# Altium footprint library F_1812_4532.PcbLib: 1 footprints
Each footprint in its own frame and in the unit in brackets; x right, y up, seen from the top. Pads: shape width x height; smd on the part's side, far side on the other; paste and mask are expansions set on the pad; w line width, h text height; cw(c..) or ccw(c..) is an arc to the next point about the centre after c.
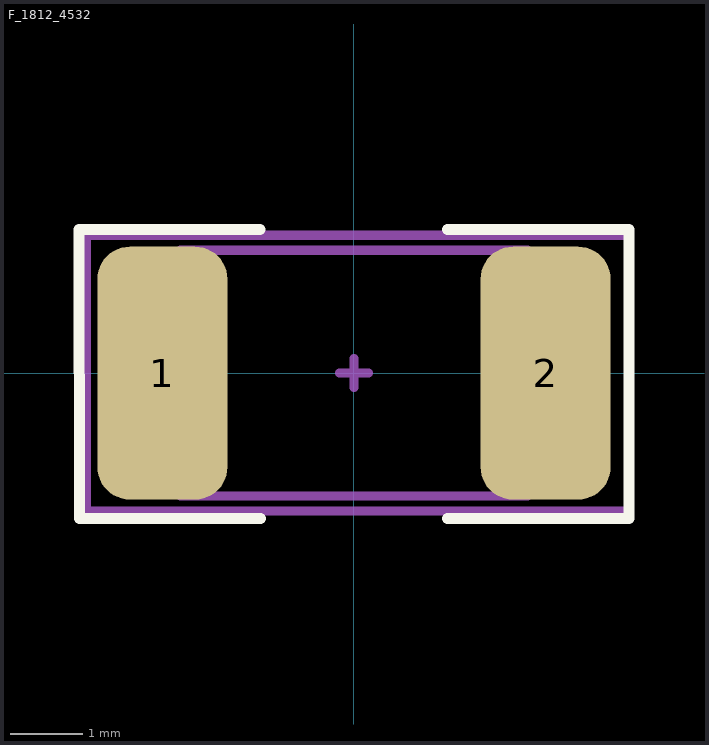
[diagram p0: the footprint, top view; thin cyan lines are the x and y axes]

## F_1812_4532 [mm]
pads (2):
  rrect50% 1.8x3.5 smd paste-0.01 mask+0.05: 1(-2.65,0) 2(2.65,0)
Top Overlay:
  lines w0.152: -1.3,1.987 -3.802,1.987 -3.797,-2.013 -1.295,-2.013 ; 1.295,-2.013 3.8,-2.013 3.8,1.987 1.295,1.987
Top Assembly:
  lines w0.127: -2.4,-1.7 -2.4,1.7 2.4,1.7 2.4,-1.7 -2.4,-1.7
Top Courtyard:
  lines w0.127: -0.2,0 0.2,0 ; 0,-0.2 0,0.2 ; -3.7,-1.905 -3.7,1.905 3.8,1.905 3.8,-1.905 -3.7,-1.905
3D body "User Library-0ZCG-1_35mm.STEP": height 1.35, standoff 0, extent -2.365,-1.705 2.365,1.705